# EAGLE library part TLE5009 (library 5009_PCB)
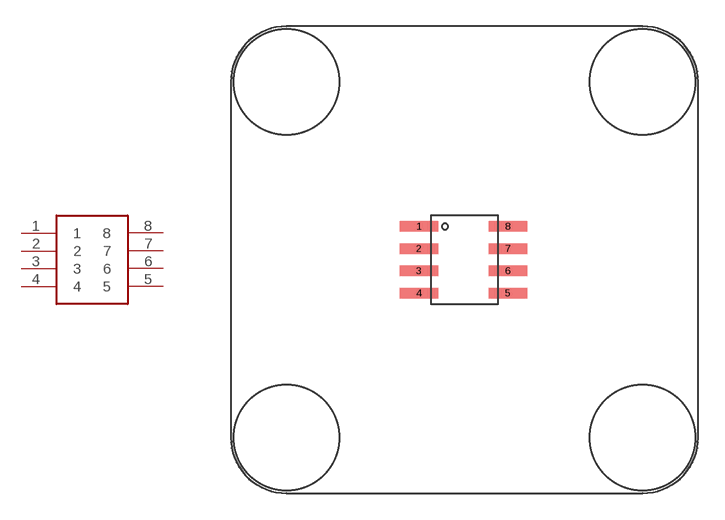
[diagram p0: symbol with the pads of TLE5009; footprint TLE5009]

Designator prefix -

## TLE5009  [TLE5009]
1  1
2  2
3  3
4  4
5  5
6  6
7  7
8  8

## Footprint TLE5009 (pad centres in mm)
smd 2.2 x 0.6: 1 -2.6,1.905; 2 -2.6,0.635; 3 -2.6,-0.635; 4 -2.6,-1.905; 5 2.48,-1.905; 6 2.48,-0.635; 7 2.48,0.635; 8 2.48,1.905